# Altium schematic symbol library LAN Transformer.SchLib: 2 symbols
Pins are listed as number, name and electrical type; pins without a type are passive.

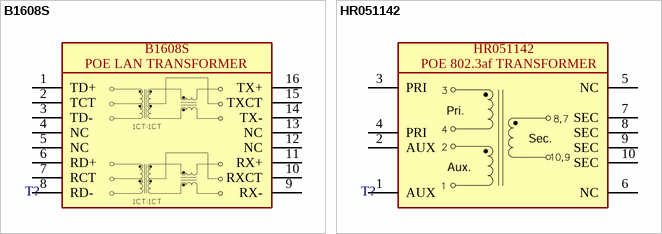
[diagram p0: symbols B1608S to HR051142]

## B1608S
designator T?
1.5kV 100M 1:1 350uH POE SMD-16P,12.7x7mm Pulse Transformers(LAN); Manufacturer 1: CND-tek; Manufacturer Part Number 1: B1608S; Package: SMD-16; Supplier 1: JLCPCB; Supplier Part Number 1: C507596; ERP: *
footprint B1608S (1.5kV 100M 1:1 350uH POE SMD-16P,12.7x7mm Pulse Transformers(LAN))
pins: 1 TD+, 2 TCT, 3 TD-, 4 NC, 5 NC, 6 RD+, 7 RCT, 8 RD-, 9 RX-, 10 RXCT, 11 RX+, 12 NC, 13 NC, 14 TX-, 15 TXCT, 16 TX+
text: POE LAN TRANSFORMER

## HR051142
designator T?
SMD-10P,13.5x13.5mm Power Transformers ROHS; Manufacturer 1: HANRUN(Zhongshan HanRun Elec); Manufacturer Part Number 1: HR051142; Package: SMD-10P,13.5x13.5mm; Supplier 1: JLCPCB; Supplier Part Number 1: C55680; ERP: *
footprint HR051142 (SMD-10P,13.5x13.5mm Power Transformers ROHS)
pins: 1 AUX, 2 AUX, 3 PRI, 4 PRI, 5 NC, 6 NC, 7 SEC, 8 SEC, 9 SEC, 10 SEC
text: POE 802.3af TRANSFORMER